# EAGLE library part CC1201 (library RoboJackets-RF)
IC RF TXRX+MCU ISM1GHZ 32VFQFN Datasheet <https://www.ti.com/lit/ds/symlink/cc1201.pdf>
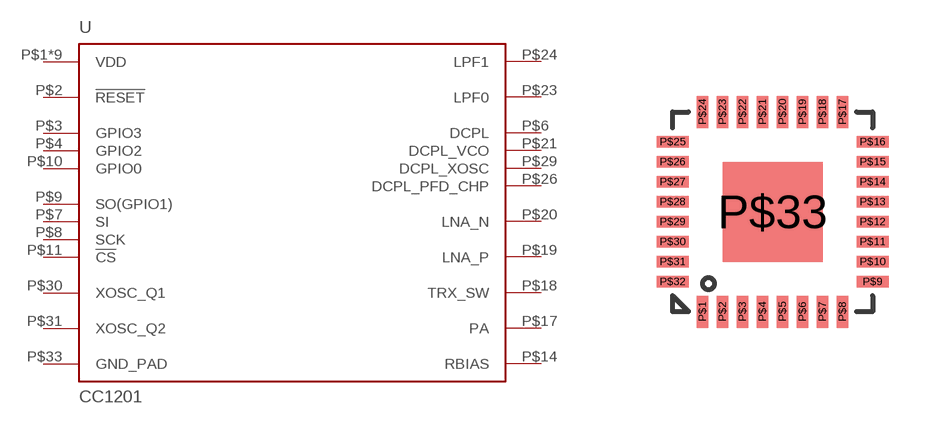
[diagram p2: symbol with the pads of QFN-32; footprint QFN-32]

Designator prefix U

## CC1201 (DKPN: 296-39977-1-ND)  [QFN-32]
P$1  VDD  pas
P$2  !RESET!  pas
P$3  GPIO3  pas
P$4  GPIO2  pas
P$5  VDD  pas
P$6  DCPL  pas
P$7  SI  pas
P$8  SCK  pas
P$9  SO(GPIO1)  pas
P$10  GPIO0  pas
P$11  !CS!  pas
P$12  VDD  pas
P$13  VDD  pas
P$14  RBIAS  pas
P$15  VDD  pas
P$17  PA  pas
P$18  TRX_SW  pas
P$19  LNA_P  pas
P$20  LNA_N  pas
P$21  DCPL_VCO  pas
P$22  VDD  pas
P$23  LPF0  pas
P$24  LPF1  pas
P$25  VDD  pas
P$26  DCPL_PFD_CHP  pas
P$27  VDD  pas
P$28  VDD  pas
P$29  DCPL_XOSC  pas
P$30  XOSC_Q1  pas
P$31  XOSC_Q2  pas
P$33  GND_PAD  pas

## Footprint QFN-32 (pad centres in mm)
smd 0.285 x 0.8: P$1 -1.75,-2.5; P$2 -1.25,-2.5; P$3 -0.75,-2.5; P$4 -0.25,-2.5; P$5 0.25,-2.5; P$6 0.75,-2.5; P$7 1.25,-2.5; P$8 1.75,-2.5; P$17 1.75,2.5; P$18 1.25,2.5; P$19 0.75,2.5; P$20 0.25,2.5; P$21 -0.25,2.5; P$22 -0.75,2.5; P$23 -1.25,2.5; P$24 -1.75,2.5
smd 0.8 x 0.285: P$9 2.5,-1.75; P$10 2.5,-1.25; P$11 2.5,-0.75; P$12 2.5,-0.25; P$13 2.5,0.25; P$14 2.5,0.75; P$15 2.5,1.25; P$16 2.5,1.75; P$25 -2.5,1.75; P$26 -2.5,1.25; P$27 -2.5,0.75; P$28 -2.5,0.25; P$29 -2.5,-0.25; P$30 -2.5,-0.75; P$31 -2.5,-1.25; P$32 -2.5,-1.75
smd 2.5 x 2.5: P$33 0,0